# Altium footprint library DIPSW8.PcbLib: 2 footprints
Each footprint in its own frame and in the unit in brackets; x right, y up, seen from the top. Pads: shape width x height; smd on the part's side, far side on the other; paste and mask are expansions set on the pad; w line width, h text height; cw(c..) or ccw(c..) is an arc to the next point about the centre after c.
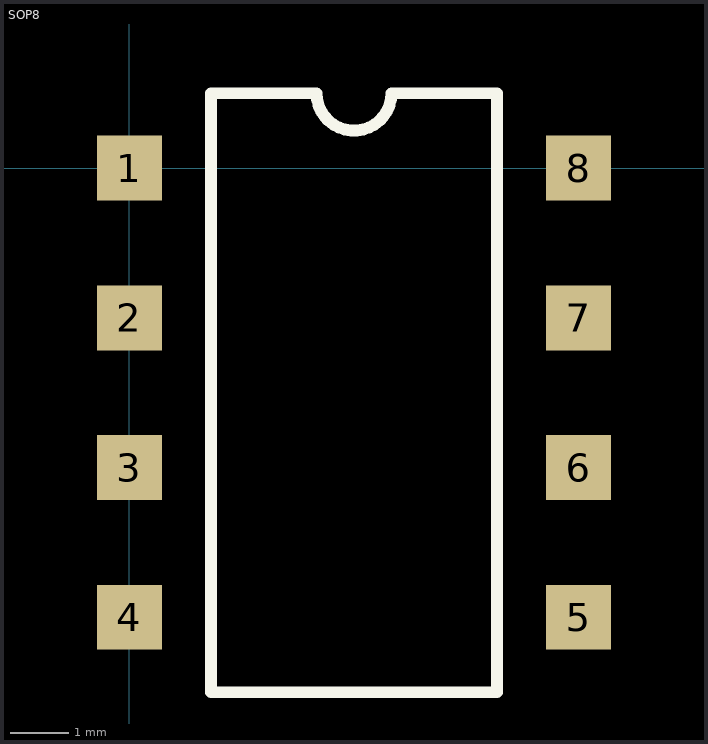
[diagram p0: the footprints below, top view; thin cyan lines are the x and y axes]

## PCBComponent_1 [mm]

## SOP8 [mm]
pads (8):
  rect 1.1x1.1 smd: 1(0,0) 2(0,-2.54) 3(0,-5.08) 4(0,-7.62) 5(7.62,-7.62) 6(7.62,-5.08) 7(7.62,-2.54) 8(7.62,0)
Top Overlay:
  lines w0.2: 1.385,-8.89 1.385,1.27 3.175,1.27 ccw(c3.81,1.27) 4.445,1.27 6.235,1.27 6.235,-8.89 1.385,-8.89